# Altium footprint library FP-B2B-PH-SM4-TBT_LF_SN-MFG.PcbLib: 1 footprints
Each footprint in its own frame and in the unit in brackets; x right, y up, seen from the top. Pads: shape width x height; smd on the part's side, far side on the other; paste and mask are expansions set on the pad; w line width, h text height; cw(c..) or ccw(c..) is an arc to the next point about the centre after c.
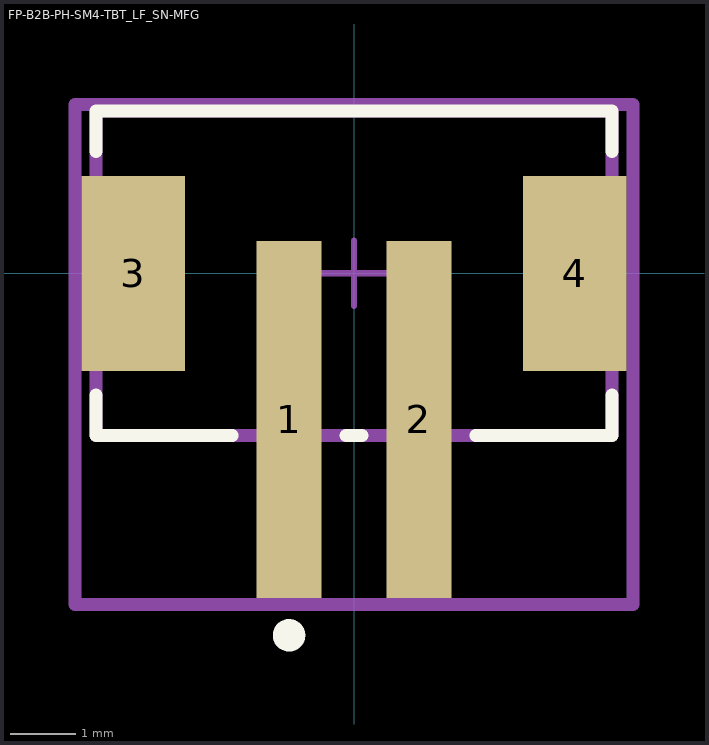
[diagram p0: the footprint, top view; thin cyan lines are the x and y axes]

## FP-B2B-PH-SM4-TBT_LF_SN-MFG [mm]
pads (4):
  rect 1x5.5 smd paste+0 mask+0: 1(-1,-2.25) 2(1,-2.25)
  rect 1.6x3 smd paste+0 mask+0: 3(-3.4,0) 4(3.4,0)
Top Overlay:
  circle w0.25: c-1,-5.575 r0.125
  lines w0.2: -3.975,-1.875 -3.975,-2.5 -1.875,-2.5 ; -3.975,1.875 -3.975,2.5 3.975,2.5 3.975,1.875 ; -0.125,-2.5 0.125,-2.5 ; 1.875,-2.5 3.975,-2.5 3.975,-1.875
Top Assembly:
  lines w0.2: -4.3,-5.1 -4.3,2.6 4.3,2.6 4.3,-5.1 -4.3,-5.1
  text ".Designator" at 0,-1.062 h1
Top 3D Body:
  lines w0.2: -3.975,-2.5 -3.975,2.5 3.975,2.5 3.975,-2.5 -3.975,-2.5
Top Courtyard:
  lines w0.2: -4.3,-5.1 -4.3,2.6 4.3,2.6 4.3,-5.1 -4.3,-5.1
Top Component Center:
  lines w0.1: -0.5,0 0.5,0 ; 0,-0.5 0,0.5
3D body "Conn_JST_B2B-PH-SM4-TBT_LF_SN_eec.STEP": height 0.25, standoff 0, extent -4.3,-5.1 4.3,2.6